# Altium footprint library PCB Components.PcbLib: 29 footprints (part 2 of 2)
Each footprint in its own frame and in the unit in brackets; x right, y up, seen from the top. Pads: shape width x height; smd on the part's side, far side on the other; paste and mask are expansions set on the pad; w line width, h text height; cw(c..) or ccw(c..) is an arc to the next point about the centre after c.
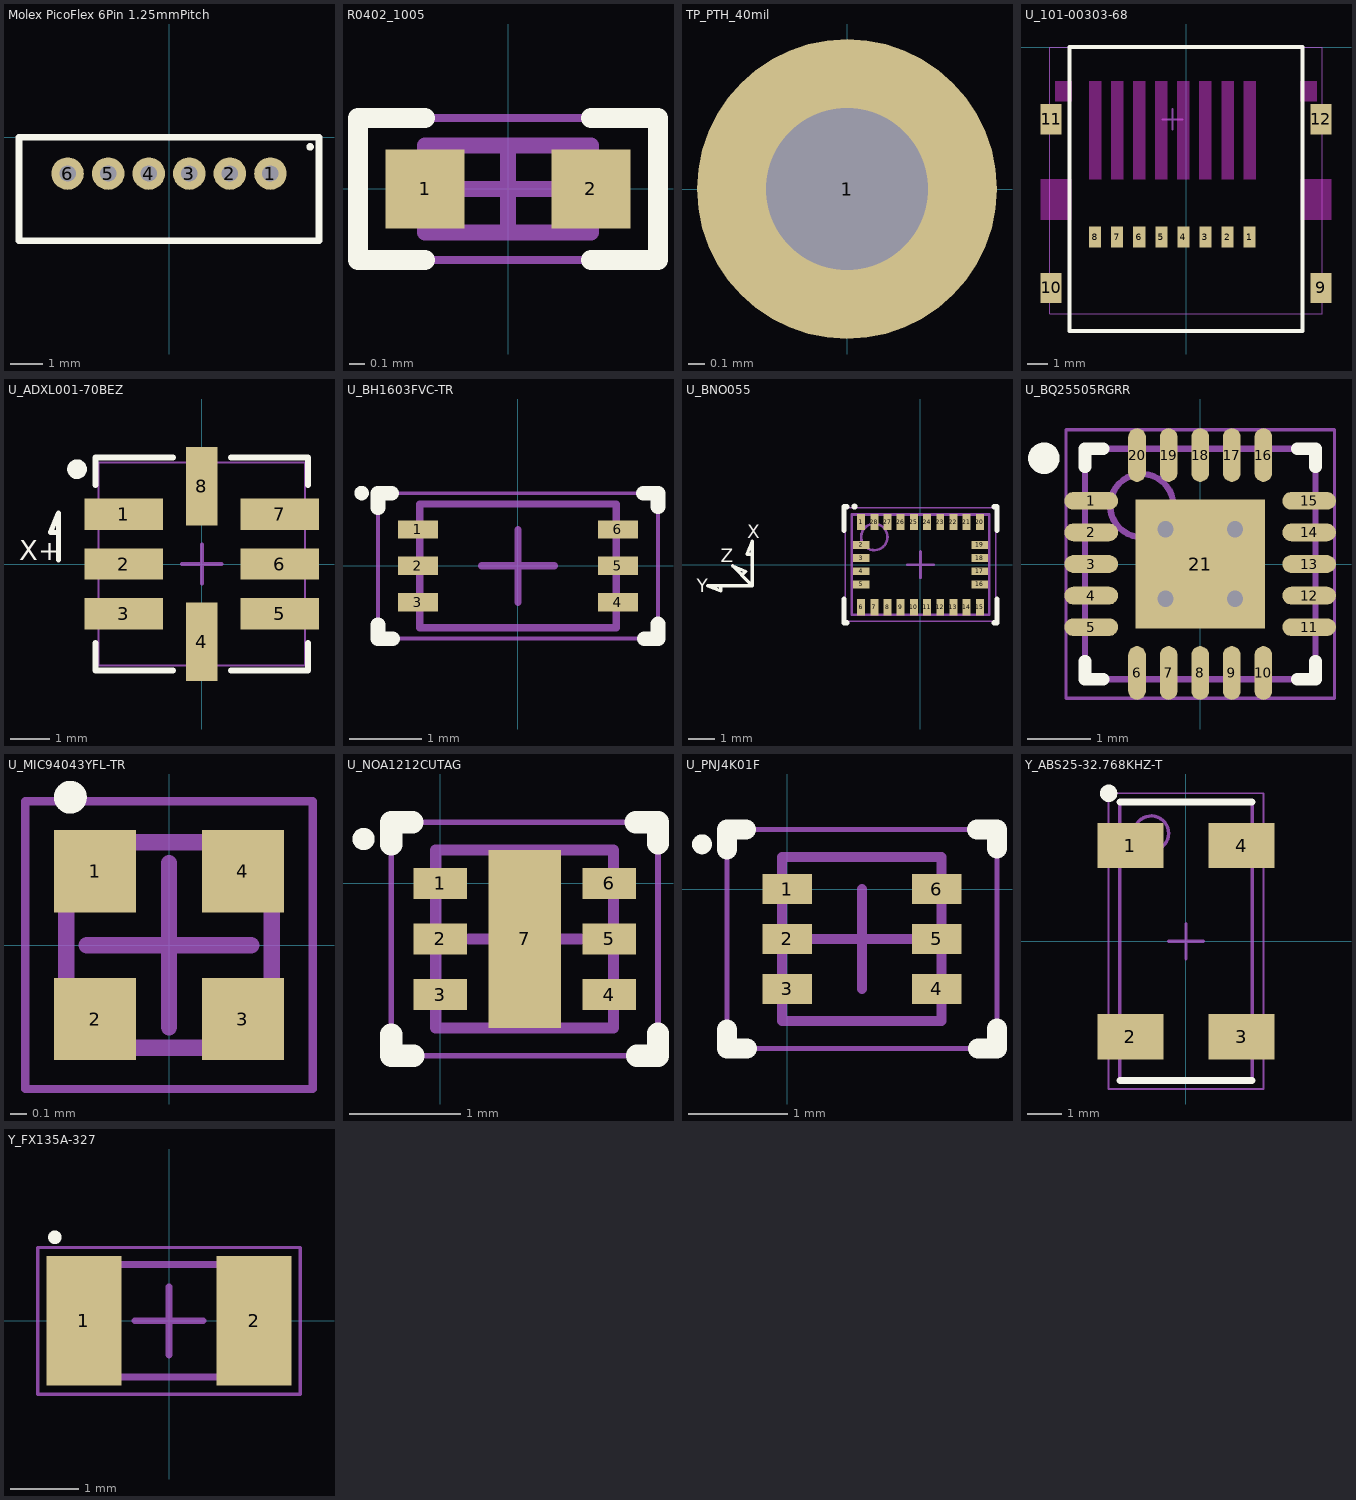
[diagram p1: the footprints below, top view; thin cyan lines are the x and y axes]

## Molex PicoFlex 6Pin 1.25mmPitch [mm]
height 4.2
pads (6):
  round 1 hole 0.5 mask+0.05: 1(3.125,-1.125) 2(1.875,-1.125) 3(0.625,-1.125) 4(-0.625,-1.125) 5(-1.875,-1.125) 6(-3.125,-1.125)
Top Overlay:
  circle w0.127: c4.35,-0.3 r0.051
  lines w0.203: -4.625,-3.2 -4.625,0 4.625,0 4.625,-3.2 -4.625,-3.2
3D body "530470610.stp": height 4.28, standoff -2.22, extent -4.625,-3.2 4.625,0

## R0402_1005 [mm] "Chip Resistor, 2-Leads, Body 1.00x0.50mm, IPC Medium Density"
height 0.4
pads (2):
  rect 0.5x0.5 smd: 1(-0.525,0) 2(0.525,0)
Top Overlay:
  lines w0.127: -0.525,-0.45 -0.95,-0.45 -0.95,0.45 -0.525,0.45 ; 0.525,-0.45 0.95,-0.45 0.95,0.45 0.525,0.45
Top Component Body:
  lines w0.1: -0.525,-0.275 0.525,-0.275 0.525,0.275 -0.525,0.275 -0.525,-0.275
Top Assembly:
  lines w0.05: -0.95,-0.45 0.95,-0.45 0.95,0.45 -0.95,0.45 -0.95,-0.45
  lines w0.1: -0.275,0 0.275,0 ; 0,-0.275 0,0.275
3D body: height 0.4, standoff 0, extent 0.275,-0.275 0.525,0.275
3D body: height 0.4, standoff 0, extent -0.525,-0.275 -0.275,0.275
3D body: height 0.4, standoff 0, extent -0.275,-0.275 0.275,0.275

## TP_PTH_40mil [mil] "Drilled, Plated Test Point, for affixing a Header Pin if desired"
pads (1):
  round 74 hole 40: 1(0,0)

## U_101-00303-68 [mm] "Micro SD Card Adapter"
height 1.8
pads (12):
  rect 0.6x1.05 smd: 1(3.17,-9.47) 2(2.07,-9.47) 3(0.97,-9.47) 4(-0.13,-9.47) 5(-1.23,-9.47) 6(-2.33,-9.47) 7(-3.43,-9.47) 8(-4.53,-9.47)
  rect 1.05x1.5 smd: 9(6.725,-12) 10(-6.725,-12) 11(-6.725,-3.6) 12(6.725,-3.6)
Top Signal keep-out:
  region: -0.43,-1.7 -0.43,-6.6 0.17,-6.6 0.17,-1.7
  region: 2.87,-1.7 2.87,-6.6 3.47,-6.6 3.47,-1.7
  region: 1.77,-1.7 1.77,-6.6 2.37,-6.6 2.37,-1.7
  region: 0.67,-1.7 0.67,-6.6 1.27,-6.6 1.27,-1.7
  region: -1.53,-1.7 -1.53,-6.6 -0.93,-6.6 -0.93,-1.7
  region: -2.63,-1.7 -2.63,-6.6 -2.03,-6.6 -2.03,-1.7
  region: -3.73,-1.7 -3.73,-6.6 -3.13,-6.6 -3.13,-1.7
  region: -4.83,-1.7 -4.83,-6.6 -4.23,-6.6 -4.23,-1.7
  region: 5.72,-8.6 7.25,-8.6 7.25,-6.6 5.72,-6.6
  region: -7.25,-8.6 -5.72,-8.6 -5.72,-6.6 -7.25,-6.6
  region: 5.69,-1.7 5.69,-2.7 6.51,-2.7 6.51,-1.7
  region: -6.51,-1.7 -6.51,-2.7 -5.69,-2.7 -5.69,-1.7
Top Overlay:
  lines w0.2: -5.8,-14.15 -5.8,0 5.8,0 5.8,-14.15 -5.8,-14.15
Top Assembly:
  lines w0.05: -6.8,-13.3 -6.8,0 6.8,0 6.8,-13.3 -6.8,-13.3
  lines w0.1: -1.18,-3.6 -0.18,-3.6 ; -0.68,-4.1 -0.68,-3.1
3D body "MicroSD Connector inch.stp": height 1.8, standoff 0, extent -7.05,-14.15 7.05,0
3D body "MicroSD Connector inch.stp": height 1.8, standoff 0, extent -7.05,-14.15 7.05,0
3D body "Micro SD Card 4.stp": height 1.8, standoff 0.69, extent -5.75,-15.027 5.299,0

## U_ADXL001-70BEZ [mm]
height 2.388
pads (8):
  rect 2x0.8 smd: 1(-1.981,1.27) 2(-1.981,0) 3(-1.981,-1.27) 5(1.981,-1.27) 6(1.981,0) 7(1.981,1.27)
  rect 0.8x2 smd: 4(0,-1.981) 8(0,1.981)
Top Overlay:
  circle w0.25: c-3.175,2.413 r0.125
  lines w0.127: -3.651,0.1 -3.651,1.3 -3.851,0.8 -3.651,0.8
  lines w0.152: -2.705,-2.009 -2.705,-2.705 -0.739,-2.705 ; -2.705,2.009 -2.705,2.705 -0.739,2.705 ; 0.739,-2.705 2.705,-2.705 2.705,-2.009 ; 0.739,2.705 2.705,2.705 2.705,2.009
  text "X+" at -4.651,0.1 h0.51
Top Assembly:
  lines w0.05: -2.629,-2.578 -2.629,2.578 2.629,2.578 2.629,-2.578 -2.629,-2.578
  lines w0.1: -0.5,0 0.5,0 ; 0,-0.5 0,0.5
3D body "E_8_1.step": height 2.01, standoff 0, extent -2.629,-2.578 2.629,2.578

## U_BH1603FVC-TR [mm] "SOTFL, 6-Leads, Body 1.60x3.00mm, Pitch 0.50mm, IPC Medium Density"
height 0.75
pads (6):
  rect 0.55x0.25 smd: 1(-1.375,0.5) 2(-1.375,0) 3(-1.375,-0.5) 4(1.375,-0.5) 5(1.375,0) 6(1.375,0.5)
Top Overlay:
  circle w0.1: c-2.15,1 r0.05
  lines w0.2: -1.925,-0.81 -1.925,-1 -1.725,-1 ; -1.925,0.8 -1.925,1 -1.735,1 ; 1.725,1 1.925,1 1.925,0.81 ; 1.735,-1 1.925,-1 1.925,-0.8
Top Component Body:
  lines w0.1: -1.35,-0.85 1.35,-0.85 1.35,0.85 -1.35,0.85 -1.35,-0.85
Top Assembly:
  lines w0.05: -1.925,-1 1.925,-1 1.925,1 -1.925,1 -1.925,-1
  lines w0.1: -0.5,0 0.5,0 ; 0,-0.5 0,0.5
3D body "U_BH1603FVC-TR.step": height 0.75, standoff 0, extent -1.5,-0.848 1.5,0.848

## U_BNO055 [mm] "LGA, 28-Leads, Body 5.20x3.80mmx1.18mm, Pitch 0.50mm"
height 1.18
pads (28):
  rect 0.3x0.62 smd mask+0.05: 1(-2.25,1.615) 6(-2.25,-1.615) 7(-1.75,-1.615) 8(-1.25,-1.615) 9(-0.75,-1.615) 10(-0.25,-1.615) 11(0.25,-1.615) 12(0.75,-1.615) 13(1.25,-1.615) 14(1.75,-1.615) 15(2.25,-1.615) 20(2.25,1.615) 21(1.75,1.615) 22(1.25,1.615) 23(0.75,1.615) 24(0.25,1.615) 25(-0.25,1.615) 26(-0.75,1.615) 27(-1.25,1.615) 28(-1.75,1.615)
  rect 0.62x0.3 smd mask+0.05: 2(-2.25,0.75) 3(-2.25,0.25) 4(-2.25,-0.25) 5(-2.25,-0.75) 16(2.25,-0.75) 17(2.25,-0.25) 18(2.25,0.25) 19(2.25,0.75)
Top Overlay:
  circle w0.127: c-2.5,2.2 r0.051
  lines w0.127: -7.571,-0.8 -7.571,-1 -8.071,-0.8 -6.371,-0.8 ; -6.771,-0.4 -6.63,-0.259 -7.125,-0.046 -6.371,-0.8 ; -6.371,0.4 -6.571,0.4 -6.371,0.9 -6.371,-0.8
  lines w0.2: -2.9,-1.3 -2.9,-2.2 -2.8,-2.2 ; -2.9,1.3 -2.9,2.2 -2.8,2.2 ; 2.8,-2.2 2.9,-2.2 2.9,-1.3 ; 2.8,2.2 2.9,2.2 2.9,1.3
  text "X" at -6.571,1 h0.51
  text "Y" at -8.471,-1.05 h0.51
  text "Z" at -7.571,0.1 h0.51
Top Component Body:
  circle w0.1: c-1.75,1.05 r0.5
  lines w0.1: -2.6,-1.9 -2.6,1.9 2.6,1.9 2.6,-1.9 -2.6,-1.9
Top Assembly:
  lines w0.05: -2.85,-2.15 -2.85,2.15 2.85,2.15 2.85,-2.15 -2.85,-2.15
  lines w0.1: -0.5,0 0.5,0 ; 0,-0.5 0,0.5
3D body "BNO055 Fix.step": height 1.18, standoff 0, extent -2.65,-1.95 2.65,1.95

## U_BQ25505RGRR [mm] "Energy Harvester, PQFN, 20-Leads, Body 3.50x3.50mm, Pitch 0.50mm, Thermal Pad 2.05x2.05mm, IPC Medium Density"
height 1
pads (21):
  oval 0.85x0.28 smd: 1(-1.725,1) 2(-1.725,0.5) 3(-1.725,0) 4(-1.725,-0.5) 5(-1.725,-1) 11(1.725,-1) 12(1.725,-0.5) 13(1.725,0) 14(1.725,0.5) 15(1.725,1)
  oval 0.28x0.85 smd: 6(-1,-1.725) 7(-0.5,-1.725) 8(0,-1.725) 9(0.5,-1.725) 10(1,-1.725) 16(1,1.725) 17(0.5,1.725) 18(0,1.725) 19(-0.5,1.725) 20(-1,1.725)
  rect 2.05x2.05 smd: 21(0,0)
via 0.55,-0.55 diameter 0.457 hole 0.254
via -0.55,-0.55 diameter 0.457 hole 0.254
via 0.55,0.55 diameter 0.457 hole 0.254
via -0.55,0.55 diameter 0.457 hole 0.254
Top Overlay:
  circle w0.25: c-2.475,1.675 r0.125
  lines w0.2: -1.825,-1.54 -1.825,-1.825 -1.54,-1.825 ; -1.825,1.54 -1.825,1.825 -1.54,1.825 ; 1.54,-1.825 1.825,-1.825 1.825,-1.54 ; 1.54,1.825 1.825,1.825 1.825,1.54
Top Component Body:
  circle w0.1: c-0.925,0.925 r0.5
  lines w0.1: -1.825,-1.825 1.825,-1.825 1.825,1.825 -1.825,1.825 -1.825,-1.825
Top Assembly:
  lines w0.05: -2.125,-2.125 2.125,-2.125 2.125,2.125 -2.125,2.125 -2.125,-2.125
  lines w0.1: -0.5,0 0.5,0 ; 0,-0.5 0,0.5
3D body "BQ25505RGRR.step": height 1, standoff 0, extent -1.825,-1.825 1.825,1.825

## U_MIC94043YFL-TR [mm] "DFN, 4-Leads, Body 1.20x1.20mm, Pitch 0.65mm, IPC Medium Density"
height 0.8
pads (4):
  rect 0.5x0.5 smd mask+0.05: 1(-0.45,0.45) 2(-0.45,-0.45) 3(0.45,-0.45) 4(0.45,0.45)
Top Overlay:
  circle w0.1: c-0.6,0.9 r0.05
Top Component Body:
  lines w0.1: -0.625,-0.625 -0.625,0.625 0.625,0.625 0.625,-0.625 -0.625,-0.625
Top Assembly:
  lines w0.05: -0.875,-0.875 -0.875,0.875 0.875,0.875 0.875,-0.875 -0.875,-0.875
  lines w0.1: -0.5,0 0.5,0 ; 0,-0.5 0,0.5
3D body: height 0.8, standoff 0, extent -0.625,-0.625 0.625,0.625

## U_NOA1212CUTAG [mm] "SON, 6-Leads, Body 1.60x1.60mm, Pitch 0.50mm, Thermal Pad 1.10x0.48mm, IPC Medium Density"
height 0.65
pads (7):
  rect 0.48x0.28 smd mask+0.05: 1(0,0) 2(0,-0.5) 3(0,-1) 4(1.52,-1) 5(1.52,-0.5) 6(1.52,0)
  rect 0.65x1.6 smd mask+0.05: 7(0.76,-0.5)
Top Overlay:
  circle w0.1: c-0.69,0.4 r0.05
  lines w0.2: -0.44,-1.36 -0.44,-1.55 -0.24,-1.55 ; -0.44,0.35 -0.44,0.55 -0.25,0.55 ; 1.76,0.55 1.96,0.55 1.96,0.36 ; 1.77,-1.55 1.96,-1.55 1.96,-1.35
Top Component Body:
  lines w0.1: -0.04,-1.3 -0.04,0.3 1.56,0.3 1.56,-1.3 -0.04,-1.3
Top Assembly:
  lines w0.05: -0.44,-1.55 -0.44,0.55 1.96,0.55 1.96,-1.55 -0.44,-1.55
  lines w0.1: 0.26,-0.5 1.26,-0.5 ; 0.76,-1 0.76,0
3D body "NOA1212CUTAG.step": height 0.65, standoff 0, extent -0.041,-1.3 1.561,0.3

## U_PNJ4K01F [mm] "SON, 6-Leads, Body 1.55x1.50mm, Pitch 0.50mm, IPC Medium Density"
height 0.63
pads (6):
  rect 0.5x0.3 smd mask+0.05: 1(0,0) 2(0,-0.5) 3(0,-1) 4(1.5,-1) 5(1.5,-0.5) 6(1.5,0)
Top Overlay:
  circle w0.1: c-0.855,0.45 r0.05
  lines w0.2: -0.605,-1.41 -0.605,-1.6 -0.405,-1.6 ; -0.605,0.4 -0.605,0.6 -0.415,0.6 ; 1.905,0.6 2.105,0.6 2.105,0.41 ; 1.915,-1.6 2.105,-1.6 2.105,-1.4
Top Component Body:
  lines w0.1: -0.05,-1.325 1.55,-1.325 1.55,0.325 -0.05,0.325 -0.05,-1.325
Top Assembly:
  lines w0.05: -0.605,-1.6 2.105,-1.6 2.105,0.6 -0.605,0.6 -0.605,-1.6
  lines w0.1: 0.25,-0.5 1.25,-0.5 ; 0.75,-1 0.75,0
3D body "U_PNJ4K01F.step": height 0.63, standoff 0, extent -0.051,-1.325 1.551,0.325

## Y_ABS25-32.768KHZ-T [mm] "SOJ, 4-Leads, Body 8.00x3.80mm, Pitch 5.50mm, IPC Medium Density"
height 2.5
pads (4):
  rect 1.9x1.3 smd: 1(-1.6,2.75) 2(-1.6,-2.75) 3(1.6,-2.75) 4(1.6,2.75)
Top Overlay:
  circle w0.25: c-2.225,4.25 r0.125
  lines w0.2: -1.9,-4 1.9,-4 ; -1.9,4 1.9,4
Top Component Body:
  circle w0.1: c-1,3.1 r0.5
  lines w0.1: -1.9,-4 1.9,-4 1.9,4 -1.9,4 -1.9,-4
Top Assembly:
  lines w0.05: -2.225,-4.25 -2.225,4.25 2.225,4.25 2.225,-4.25 -2.225,-4.25
  lines w0.1: -0.5,0 0.5,0 ; 0,-0.5 0,0.5
3D body "ABS25.STEP": height 2.65, standoff -0.01, extent -2,-4 2,4

## Y_FX135A-327 [mm] "DFN, 2-Leads, Body 1.50x3.20mm, Pitch 2.50mm, IPC Medium Density"
height 0.9
pads (2):
  rect 1.1x1.9 smd: 1(-1.25,0) 2(1.25,0)
Top Overlay:
  circle w0.1: c-1.675,1.225 r0.05
Top Component Body:
  lines w0.1: -1.675,-0.825 1.675,-0.825 1.675,0.825 -1.675,0.825 -1.675,-0.825
Top Assembly:
  lines w0.05: -1.925,-1.075 1.925,-1.075 1.925,1.075 -1.925,1.075 -1.925,-1.075
  lines w0.1: -0.5,0 0.5,0 ; 0,-0.5 0,0.5
3D body "Y_FX135A-327.step": height 0.9, standoff 0, extent -1.675,-0.825 1.675,0.825